# Altium footprint library Con Mod Jack PCB.PcbLib: 213 footprints (part 9 of 14)
Each footprint in its own frame and in the unit in brackets; x right, y up, seen from the top. Pads: shape width x height; smd on the part's side, far side on the other; paste and mask are expansions set on the pad; w line width, h text height; cw(c..) or ccw(c..) is an arc to the next point about the centre after c.
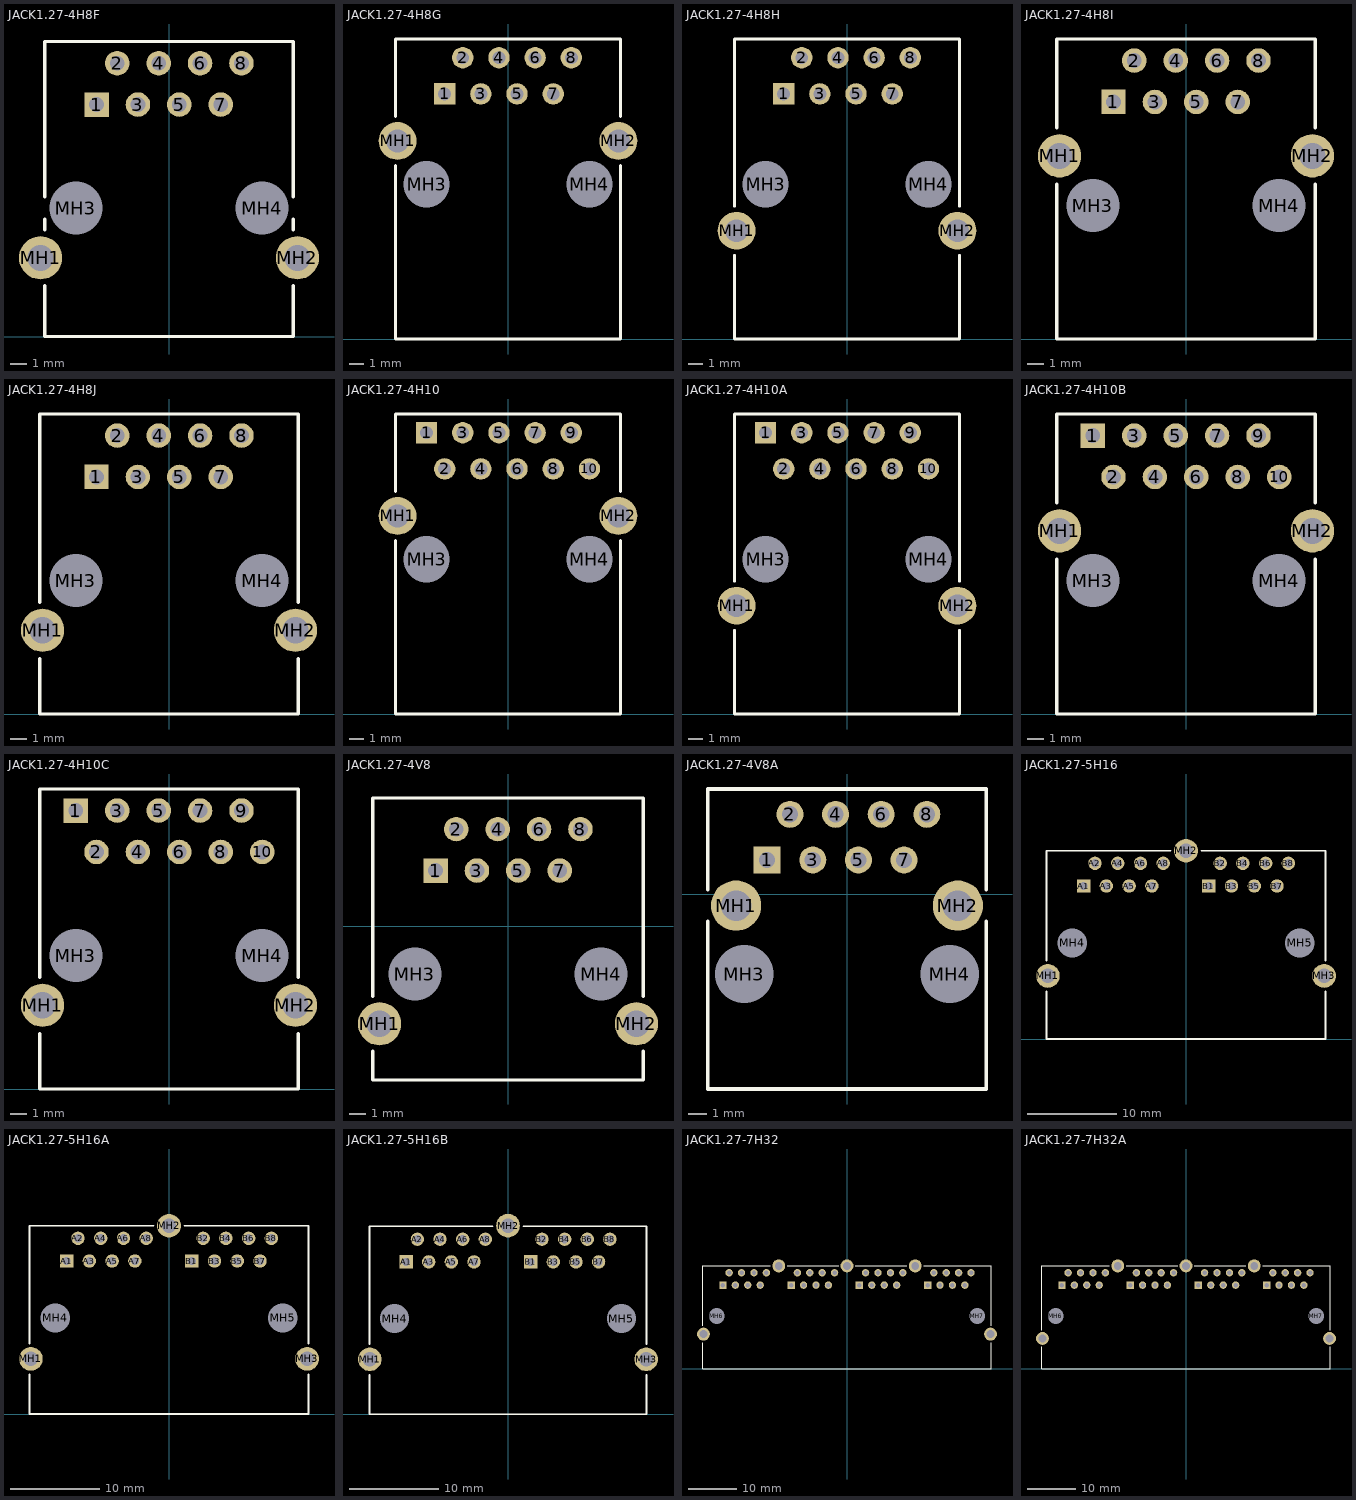
[diagram p8: the footprints below, top view; thin cyan lines are the x and y axes]

## JACK1.27-4H8F [mm] "Connector; PCB Jack, Thru-Hole; 1-Port, 8 Positions, 8 Loaded; Shielded without Lightpipes; Right Angle"
height 11.75
pads (12):
  rect 1.5x1.5 hole 0.9: 1(-4.445,14.23)
  round 1.5 hole 0.9: 2(-3.175,16.77) 3(-1.905,14.23) 4(-0.635,16.77) 5(0.635,14.23) 6(1.905,16.77) 7(3.175,14.23) 8(4.445,16.77)
  round 2.65 hole 1.6: MH1(-7.875,4.83) MH2(7.875,4.83)
  round 2.95 hole 3.25 unplated: MH3(-5.715,7.88) MH4(5.715,7.88)
Top Overlay:
  lines w0.2: -7.62,3.124 -7.62,0 7.62,0 7.62,3.124 ; -7.62,6.536 -7.62,7.193 ; -7.62,8.567 -7.62,18.1 7.62,18.1 7.62,8.567 ; 7.62,6.536 7.62,7.193

## JACK1.27-4H8G [mm] "Connector; PCB Jack, Thru-Hole; 1-Port, 8 Positions, 8 Loaded; Shielded without Lightpipes; Right Angle"
height 13
pads (12):
  rect 1.5x1.5 hole 0.9: 1(-4.445,17.2)
  round 1.5 hole 0.9: 2(-3.175,19.74) 3(-1.905,17.2) 4(-0.635,19.74) 5(0.635,17.2) 6(1.905,19.74) 7(3.175,17.2) 8(4.445,19.74)
  round 2.65 hole 1.6: MH1(-7.747,13.898) MH2(7.747,13.898)
  round 2.95 hole 3.25 unplated: MH3(-5.715,10.85) MH4(5.715,10.85)
Top Overlay:
  lines w0.2: -7.885,12.174 -7.885,0 7.885,0 7.885,12.174 ; -7.885,15.622 -7.885,21.05 7.885,21.05 7.885,15.622

## JACK1.27-4H8H [mm] "Connector; PCB Jack, Thru-Hole; 1-Port, 8 Positions, 8 Loaded; Shielded without Lightpipes; Right Angle"
height 13
pads (12):
  rect 1.5x1.5 hole 0.9: 1(-4.445,17.2)
  round 1.5 hole 0.9: 2(-3.175,19.74) 3(-1.905,17.2) 4(-0.635,19.74) 5(0.635,17.2) 6(1.905,19.74) 7(3.175,17.2) 8(4.445,19.74)
  round 2.65 hole 1.6: MH1(-7.747,7.599) MH2(7.747,7.599)
  round 2.95 hole 3.25 unplated: MH3(-5.715,10.85) MH4(5.715,10.85)
Top Overlay:
  lines w0.2: -7.885,5.88 -7.885,0 7.885,0 7.885,5.88 ; -7.885,9.318 -7.885,21.05 7.885,21.05 7.885,9.318

## JACK1.27-4H8I [mm] "Connector; PCB Jack, Thru-Hole; 1-Port, 8 Positions, 8 Loaded; Shielded without Lightpipes; Right Angle"
height 12.09
pads (12):
  rect 1.5x1.5 hole 0.9: 1(-4.445,14.529)
  round 1.5 hole 0.9: 2(-3.175,17.069) 3(-1.905,14.529) 4(-0.635,17.069) 5(0.635,14.529) 6(1.905,17.069) 7(3.175,14.529) 8(4.445,17.069)
  round 2.65 hole 1.6: MH1(-7.747,11.227) MH2(7.747,11.227)
  round 2.95 hole 3.25 unplated: MH3(-5.715,8.179) MH4(5.715,8.179)
Top Overlay:
  lines w0.2: -7.925,9.503 -7.925,0 7.925,0 7.925,9.503 ; -7.925,12.951 -7.925,18.39 7.925,18.39 7.925,12.951

## JACK1.27-4H8J [mm] "Connector; PCB Jack, Thru-Hole; 1-Port, 8 Positions, 8 Loaded; Shielded without Lightpipes; Right Angle"
height 12.09
pads (12):
  rect 1.5x1.5 hole 0.9: 1(-4.445,14.529)
  round 1.5 hole 0.9: 2(-3.175,17.069) 3(-1.905,14.529) 4(-0.635,17.069) 5(0.635,14.529) 6(1.905,17.069) 7(3.175,14.529) 8(4.445,17.069)
  round 2.65 hole 1.6: MH1(-7.747,5.131) MH2(7.747,5.131)
  round 2.95 hole 3.25 unplated: MH3(-5.715,8.179) MH4(5.715,8.179)
Top Overlay:
  lines w0.2: -7.925,0 -7.925,3.407 ; -7.925,6.855 -7.925,18.39 7.925,18.39 7.925,6.855 ; -7.885,0 7.925,0 7.925,3.407

## JACK1.27-4H10 [mm] "Connector; PCB Jack, Thru-Hole; 1-Port, 8 Positions, 10 Loaded; Shielded without Lightpipes; Right Angle"
height 13
pads (14):
  rect 1.5x1.5 hole 0.9: 1(-5.715,19.74)
  round 1.5 hole 0.9: 2(-4.445,17.2) 3(-3.175,19.74) 4(-1.905,17.2) 5(-0.635,19.74) 6(0.635,17.2) 7(1.905,19.74) 8(3.175,17.2) 9(4.445,19.74) 10(5.715,17.2)
  round 2.65 hole 1.6: MH1(-7.747,13.898) MH2(7.747,13.898)
  round 2.95 hole 3.25 unplated: MH3(-5.715,10.85) MH4(5.715,10.85)
Top Overlay:
  lines w0.2: -7.885,12.174 -7.885,0 7.885,0 7.885,12.174 ; -7.885,15.622 -7.885,21.05 7.885,21.05 7.885,15.622

## JACK1.27-4H10A [mm] "Connector; PCB Jack, Thru-Hole; 1-Port, 8 Positions, 10 Loaded; Shielded without Lightpipes; Right Angle"
height 13
pads (14):
  rect 1.5x1.5 hole 0.9: 1(-5.715,19.74)
  round 1.5 hole 0.9: 2(-4.445,17.2) 3(-3.175,19.74) 4(-1.905,17.2) 5(-0.635,19.74) 6(0.635,17.2) 7(1.905,19.74) 8(3.175,17.2) 9(4.445,19.74) 10(5.715,17.2)
  round 2.65 hole 1.6: MH1(-7.747,7.599) MH2(7.747,7.599)
  round 2.95 hole 3.25 unplated: MH3(-5.715,10.85) MH4(5.715,10.85)
Top Overlay:
  lines w0.2: -7.885,5.88 -7.885,0 7.885,0 7.885,5.88 ; -7.885,9.318 -7.885,21.05 7.885,21.05 7.885,9.318

## JACK1.27-4H10B [mm] "Connector; PCB Jack, Thru-Hole; 1-Port, 8 Positions, 10 Loaded; Shielded without Lightpipes; Right Angle"
height 12.09
pads (14):
  rect 1.5x1.5 hole 0.9: 1(-5.715,17.069)
  round 1.5 hole 0.9: 2(-4.445,14.529) 3(-3.175,17.069) 4(-1.905,14.529) 5(-0.635,17.069) 6(0.635,14.529) 7(1.905,17.069) 8(3.175,14.529) 9(4.445,17.069) 10(5.715,14.529)
  round 2.65 hole 1.6: MH1(-7.747,11.227) MH2(7.747,11.227)
  round 2.95 hole 3.25 unplated: MH3(-5.715,8.179) MH4(5.715,8.179)
Top Overlay:
  lines w0.2: -7.925,9.503 -7.925,0 7.925,0 7.925,9.503 ; -7.925,12.951 -7.925,18.39 7.925,18.39 7.925,12.951

## JACK1.27-4H10C [mm] "Connector; PCB Jack, Thru-Hole; 1-Port, 8 Positions, 10 Loaded; Shielded without Lightpipes; Right Angle"
height 12.09
pads (14):
  rect 1.5x1.5 hole 0.9: 1(-5.715,17.069)
  round 1.5 hole 0.9: 2(-4.445,14.529) 3(-3.175,17.069) 4(-1.905,14.529) 5(-0.635,17.069) 6(0.635,14.529) 7(1.905,17.069) 8(3.175,14.529) 9(4.445,17.069) 10(5.715,14.529)
  round 2.65 hole 1.6: MH1(-7.747,5.131) MH2(7.747,5.131)
  round 2.95 hole 3.25 unplated: MH3(-5.715,8.179) MH4(5.715,8.179)
Top Overlay:
  lines w0.2: -7.925,3.407 -7.925,0 7.925,0 7.925,3.407 ; -7.925,6.855 -7.925,18.39 7.925,18.39 7.925,6.855

## JACK1.27-4V8 [mm] "Connector; PCB Jack, Thru-Hole; 1-Port, 8 Positions, 8 Loaded; Shielded without Lightpipes; Vertical"
height 16.5
pads (12):
  rect 1.5x1.5 hole 0.9: 1(-4.445,3.43)
  round 1.5 hole 0.9: 2(-3.175,5.97) 3(-1.905,3.43) 4(-0.635,5.97) 5(0.635,3.43) 6(1.905,5.97) 7(3.175,3.43) 8(4.445,5.97)
  round 2.65 hole 1.6: MH1(-7.875,-5.97) MH2(7.875,-5.97)
  round 2.95 hole 3.25 unplated: MH3(-5.715,-2.92) MH4(5.715,-2.92)
Top Overlay:
  lines w0.2: -8.3,-7.642 -8.3,-9.42 8.3,-9.42 8.3,-7.642 ; -8.3,-4.298 -8.3,7.88 8.3,7.88 8.3,-4.298

## JACK1.27-4V8A [mm] "Connector; PCB Jack, Thru-Hole; 1-Port, 8 Positions, 8 Loaded; Shielded without Lightpipes; Vertical"
height 16.25
pads (12):
  rect 1.5x1.5 hole 0.9: 1(-4.445,1.905)
  round 1.5 hole 0.9: 2(-3.175,4.445) 3(-1.905,1.905) 4(-0.635,4.445) 5(0.635,1.905) 6(1.905,4.445) 7(3.175,1.905) 8(4.445,4.445)
  round 2.8 hole 1.7: MH1(-6.175,-0.635) MH2(6.175,-0.635)
  round 2.95 hole 3.25 unplated: MH3(-5.715,-4.445) MH4(5.715,-4.445)
Top Overlay:
  lines w0.2: -7.75,-1.506 -7.75,-10.845 7.75,-10.845 7.75,-1.506 ; -7.75,0.236 -7.75,5.855 7.75,5.855 7.75,0.236

## JACK1.27-5H16 [mm] "Connector; PCB Jack, Thru-Hole; 2-Port, 8 Positions, 8 Loaded; Shielded without Lightpipes; Right Angle"
height 13.31
pads (21):
  rect 1.5x1.5 hole 0.9: A1(-11.43,17.09) B1(2.54,17.09)
  round 1.5 hole 0.9: A2(-10.16,19.63) A3(-8.89,17.09) A4(-7.62,19.63) A5(-6.35,17.09) A6(-5.08,19.63) A7(-3.81,17.09) A8(-2.54,19.63) B2(3.81,19.63) B3(5.08,17.09) B4(6.35,19.63) B5(7.62,17.09) B6(8.89,19.63) B7(10.16,17.09) B8(11.43,19.63)
  round 2.65 hole 1.6: MH1(-15.418,7.057) MH2(0,21.027) MH3(15.418,7.057)
  round 2.95 hole 3.25 unplated: MH4(-12.7,10.74) MH5(12.7,10.74)
Top Overlay:
  lines w0.2: -15.56,5.338 -15.56,0 15.56,0 15.56,5.338 ; -15.56,8.776 -15.56,21.02 -1.725,21.02 ; 1.725,21.02 15.56,21.02 15.56,8.776

## JACK1.27-5H16A [mm] "Connector; PCB Jack, Thru-Hole; 2-Port, 8 Positions, 8 Loaded; Shielded without Lightpipes; Right Angle"
height 13.31
pads (21):
  rect 1.5x1.5 hole 0.9: A1(-11.43,17.09) B1(2.54,17.09)
  round 1.5 hole 0.9: A2(-10.16,19.63) A3(-8.89,17.09) A4(-7.62,19.63) A5(-6.35,17.09) A6(-5.08,19.63) A7(-3.81,17.09) A8(-2.54,19.63) B2(3.81,19.63) B3(5.08,17.09) B4(6.35,19.63) B5(7.62,17.09) B6(8.89,19.63) B7(10.16,17.09) B8(11.43,19.63)
  round 2.65 hole 1.6: MH1(-15.418,6.168) MH2(0,21.027) MH3(15.418,6.168)
  round 2.95 hole 3.25 unplated: MH4(-12.7,10.74) MH5(12.7,10.74)
Top Overlay:
  lines w0.2: -15.56,4.449 -15.56,0 15.56,0 15.56,4.449 ; -15.56,7.887 -15.56,21.02 -1.725,21.02 ; 1.725,21.02 15.56,21.02 15.56,7.887

## JACK1.27-5H16B [mm] "Connector; PCB Jack, Thru-Hole; 2-Port, 8 Positions, 8 Loaded; Shielded without Lightpipes; Right Angle"
height 13.3
pads (21):
  rect 1.5x1.5 hole 0.9: A1(-11.43,17.07) B1(2.54,17.07)
  round 1.5 hole 0.9: A2(-10.16,19.61) A3(-8.89,17.07) A4(-7.62,19.61) A5(-6.35,17.07) A6(-5.08,19.61) A7(-3.81,17.07) A8(-2.54,19.61) B2(3.81,19.61) B3(5.08,17.07) B4(6.35,19.61) B5(7.62,17.07) B6(8.89,19.61) B7(10.16,17.07) B8(11.43,19.61)
  round 2.65 hole 1.6: MH1(-15.494,6.148) MH2(0,21.134) MH3(15.494,6.148)
  round 2.95 hole 3.25 unplated: MH4(-12.7,10.72) MH5(12.7,10.72)
Top Overlay:
  lines w0.2: -15.545,4.423 -15.545,0 15.545,0 15.545,4.423 ; -15.545,7.873 -15.545,21.08 -1.724,21.08 ; 1.724,21.08 15.545,21.08 15.545,7.873

## JACK1.27-7H32 [mm] "Connector; PCB Jack, Thru-Hole; 4-Port, 8 Positions, 8 Loaded; Shielded without Lightpipes; Right Angle"
height 13.31
pads (39):
  rect 1.5x1.5 hole 0.9: A1(-25.4,17.09) B1(-11.43,17.09) C1(2.54,17.09) D1(16.51,17.09)
  round 1.5 hole 0.9: A2(-24.13,19.63) A3(-22.86,17.09) A4(-21.59,19.63) A5(-20.32,17.09) A6(-19.05,19.63) A7(-17.78,17.09) A8(-16.51,19.63) B2(-10.16,19.63) B3(-8.89,17.09) B4(-7.62,19.63) B5(-6.35,17.09) B6(-5.08,19.63) B7(-3.81,17.09) B8(-2.54,19.63) C2(3.81,19.63) C3(5.08,17.09) C4(6.35,19.63) C5(7.62,17.09) C6(8.89,19.63) C7(10.16,17.09) C8(11.43,19.63) D2(17.78,19.63) D3(19.05,17.09) D4(20.32,19.63) D5(21.59,17.09) D6(22.86,19.63) D7(24.13,17.09) D8(25.4,19.63)
  round 2.65 hole 1.6: MH1(-29.388,7.057) MH2(-13.97,21.027) MH3(0,21.027) MH4(13.97,21.027) MH5(29.388,7.057)
  round 2.95 hole 3.25 unplated: MH6(-26.67,10.74) MH7(26.67,10.74)
Top Overlay:
  lines w0.2: -29.53,5.338 -29.53,0 29.53,0 29.53,5.338 ; -29.53,8.776 -29.53,21.02 -15.695,21.02 ; -12.245,21.02 -1.725,21.02 ; 1.725,21.02 12.245,21.02 ; 15.695,21.02 29.53,21.02 29.53,8.776

## JACK1.27-7H32A [mm] "Connector; PCB Jack, Thru-Hole; 4-Port, 8 Positions, 8 Loaded; Shielded without Lightpipes; Right Angle"
height 13.31
pads (39):
  rect 1.5x1.5 hole 0.9: A1(-25.4,17.09) B1(-11.43,17.09) C1(2.54,17.09) D1(16.51,17.09)
  round 1.5 hole 0.9: A2(-24.13,19.63) A3(-22.86,17.09) A4(-21.59,19.63) A5(-20.32,17.09) A6(-19.05,19.63) A7(-17.78,17.09) A8(-16.51,19.63) B2(-10.16,19.63) B3(-8.89,17.09) B4(-7.62,19.63) B5(-6.35,17.09) B6(-5.08,19.63) B7(-3.81,17.09) B8(-2.54,19.63) C2(3.81,19.63) C3(5.08,17.09) C4(6.35,19.63) C5(7.62,17.09) C6(8.89,19.63) C7(10.16,17.09) C8(11.43,19.63) D2(17.78,19.63) D3(19.05,17.09) D4(20.32,19.63) D5(21.59,17.09) D6(22.86,19.63) D7(24.13,17.09) D8(25.4,19.63)
  round 2.65 hole 1.6: MH1(-29.388,6.168) MH2(-13.97,21.027) MH3(0,21.027) MH4(13.97,21.027) MH5(29.388,6.168)
  round 2.95 hole 3.25 unplated: MH6(-26.67,10.74) MH7(26.67,10.74)
Top Overlay:
  lines w0.2: -29.53,4.449 -29.53,0 29.53,0 29.53,4.449 ; -29.53,7.887 -29.53,21.02 -15.695,21.02 ; -12.245,21.02 -1.725,21.02 ; 1.725,21.02 12.245,21.02 ; 15.695,21.02 29.53,21.02 29.53,7.887